# EAGLE library part CP2102 (library deiring-components)
Single-Chip USB to UART Bridge
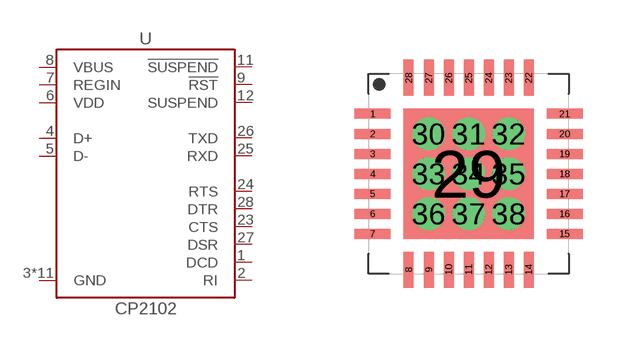
[diagram p12: symbol with the pads of QFN-28; footprint QFN-28]

Designator prefix U

## CP2102-QFN-28 (LCSC: C6568; MF: SILICON LABS; MPN: CP2102-GMR; VALUE: CP2102)  [QFN-28]
1  DCD
2  RI
3  GND  pwr
4  D+
5  D-
6  VDD  pwr
7  REGIN
8  VBUS
9  !RST
11  !SUSPEND
12  SUSPEND
23  CTS
24  RTS
25  RXD
26  TXD
27  DSR
28  DTR
29  GND  pwr
30  GND  pwr
31  GND  pwr
32  GND  pwr
33  GND  pwr
34  GND  pwr
35  GND  pwr
36  GND  pwr
37  GND  pwr
38  GND  pwr

## Footprint QFN-28 (pad centres in mm)
smd 0.9 x 0.25: 1 -2.4,1.5; 2 -2.4,1; 3 -2.4,0.5; 4 -2.4,0; 5 -2.4,-0.5; 6 -2.4,-1; 7 -2.4,-1.5; 15 2.4,-1.5; 16 2.4,-1; 17 2.4,-0.5; 18 2.4,0; 19 2.4,0.5; 20 2.4,1; 21 2.4,1.5
smd 0.25 x 0.9: 8 -1.5,-2.4; 9 -1,-2.4; 10 -0.5,-2.4; 11 0,-2.4; 12 0.5,-2.4; 13 1,-2.4; 14 1.5,-2.4; 22 1.5,2.4; 23 1,2.4; 24 0.5,2.4; 25 0,2.4; 26 -0.5,2.4; 27 -1,2.4; 28 -1.5,2.4
smd 3.25 x 3.25: 29 0,0
drill 0.3 pad 0.5: 30 -1,1; 31 0,1; 32 1,1; 33 -1,0; 34 0,0; 35 1,0; 36 -1,-1; 37 0,-1; 38 1,-1